# Altium schematic symbol library LI24-1A85.SchLib: 1 symbol
Pins are listed as number, name and electrical type; pins without a type are passive.

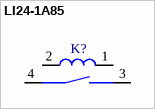
[diagram p0: symbol LI24-1A85]

## LI24-1A85
designator K?  (value not drawn)
pins: 1 0, 2 1, 3, 4